# EAGLE library part STM32F405R (library mylib)
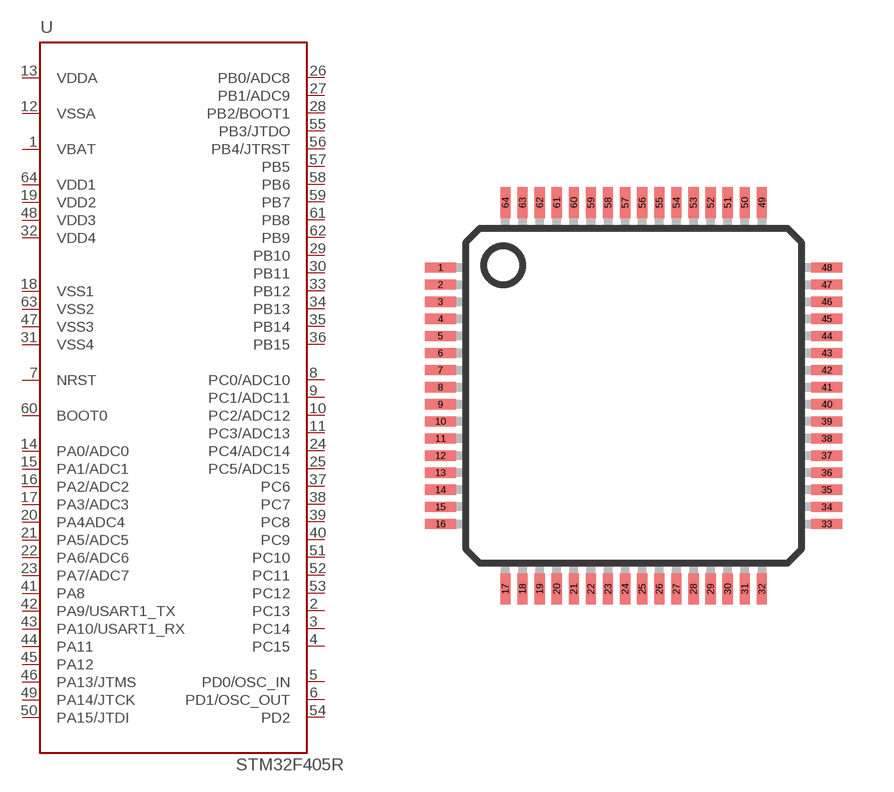
[diagram p8: symbol with the pads of LQFP64; footprint LQFP64]

Designator prefix -

## STM32F405R  [LQFP64]
1  VBAT
2  PC13
3  PC14
4  PC15
5  PD0/OSC_IN
6  PD1/OSC_OUT
7  NRST  out
8  PC0/ADC10
9  PC1/ADC11
10  PC2/ADC12
11  PC3/ADC13
12  VSSA
13  VDDA  in
14  PA0/ADC0
15  PA1/ADC1
16  PA2/ADC2
17  PA3/ADC3
18  VSS1
19  VDD2
20  PA4ADC4
21  PA5/ADC5
22  PA6/ADC6
23  PA7/ADC7
24  PC4/ADC14
25  PC5/ADC15
26  PB0/ADC8
27  PB1/ADC9
28  PB2/BOOT1
29  PB10
30  PB11
31  VSS4  in
32  VDD4
33  PB12
34  PB13
35  PB14
36  PB15
37  PC6
38  PC7
39  PC8
40  PC9
41  PA8
42  PA9/USART1_TX
43  PA10/USART1_RX
44  PA11
45  PA12
46  PA13/JTMS
47  VSS3
48  VDD3
49  PA14/JTCK
50  PA15/JTDI
51  PC10
52  PC11
53  PC12
54  PD2
55  PB3/JTDO
56  PB4/JTRST
57  PB5
58  PB6
59  PB7
60  BOOT0
61  PB8
62  PB9
63  VSS2
64  VDD1

## Footprint LQFP64 (pad centres in mm)
smd 0.9 x 0.3: 1 -5.65,3.75; 2 -5.65,3.25; 3 -5.65,2.75; 4 -5.65,2.25; 5 -5.65,1.75; 6 -5.65,1.25; 7 -5.65,0.75; 8 -5.65,0.25; 9 -5.65,-0.25; 10 -5.65,-0.75; 11 -5.65,-1.25; 12 -5.65,-1.75; 13 -5.65,-2.25; 14 -5.65,-2.75; 15 -5.65,-3.25; 16 -5.65,-3.75; 33 5.65,-3.75; 34 5.65,-3.25; 35 5.65,-2.75; 36 5.65,-2.25; 37 5.65,-1.75; 38 5.65,-1.25; 39 5.65,-0.75; 40 5.65,-0.25; 41 5.65,0.25; 42 5.65,0.75; 43 5.65,1.25; 44 5.65,1.75; 45 5.65,2.25; 46 5.65,2.75; 47 5.65,3.25; 48 5.65,3.75
smd 0.3 x 0.9: 17 -3.75,-5.65; 18 -3.25,-5.65; 19 -2.75,-5.65; 20 -2.25,-5.65; 21 -1.75,-5.65; 22 -1.25,-5.65; 23 -0.75,-5.65; 24 -0.25,-5.65; 25 0.25,-5.65; 26 0.75,-5.65; 27 1.25,-5.65; 28 1.75,-5.65; 29 2.25,-5.65; 30 2.75,-5.65; 31 3.25,-5.65; 32 3.75,-5.65; 49 3.75,5.65; 50 3.25,5.65; 51 2.75,5.65; 52 2.25,5.65; 53 1.75,5.65; 54 1.25,5.65; 55 0.75,5.65; 56 0.25,5.65; 57 -0.25,5.65; 58 -0.75,5.65; 59 -1.25,5.65; 60 -1.75,5.65; 61 -2.25,5.65; 62 -2.75,5.65; 63 -3.25,5.65; 64 -3.75,5.65